# Altium schematic symbol library GCJ188R71H102KA01D.SchLib: 1 symbol
Pins are listed as number, name and electrical type; pins without a type are passive.

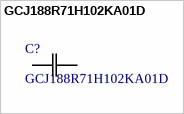
[diagram p0: symbol GCJ188R71H102KA01D]

## GCJ188R71H102KA01D
designator C?
No Description Available; Manufacturer_Name: Murata; Type: Ceramic Capacitors; Copyright: Copyright (C) 2026 Ultra Librarian. All rights reserved.; Manufacturer_Part_Number: GCJ188R71H102KA01D
footprint CAP_GCJ18_1p8X0p9X0p9_MUR
pins: 1, 2